# Altium footprint library SOP128P700X220-16N.PcbLib: 1 footprints
Each footprint in its own frame and in the unit in brackets; x right, y up, seen from the top. Pads: shape width x height; smd on the part's side, far side on the other; paste and mask are expansions set on the pad; w line width, h text height; cw(c..) or ccw(c..) is an arc to the next point about the centre after c.
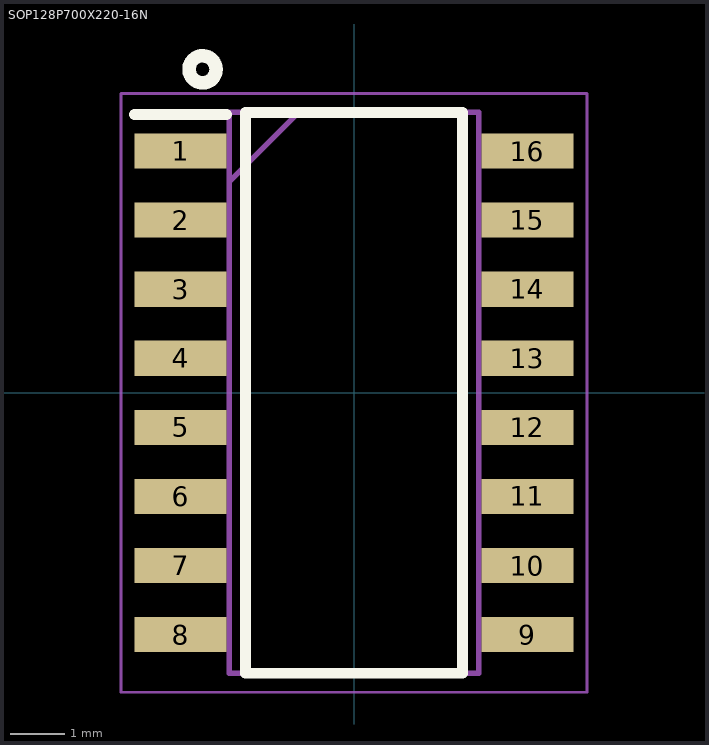
[diagram p0: the footprint, top view; thin cyan lines are the x and y axes]

## SOP128P700X220-16N [mm]
pads (16):
  rect 1.7x0.65 smd: 1(-3.2,4.462) 2(-3.2,3.188) 3(-3.2,1.912) 4(-3.2,0.638) 5(-3.2,-0.638) 6(-3.2,-1.912) 7(-3.2,-3.188) 8(-3.2,-4.462) 9(3.2,-4.462) 10(3.2,-3.188) 11(3.2,-1.912) 12(3.2,-0.638) 13(3.2,0.638) 14(3.2,1.912) 15(3.2,3.188) 16(3.2,4.462)
Top Overlay:
  circle w0.25: c-2.794,5.969 r0.25
  lines w0.2: -4.05,5.138 -2.35,5.138 ; -2,-5.175 2,-5.175 2,5.175 -2,5.175 -2,-5.175
Mechanical 13:
  lines w0.1: -2.3,3.9 -1.025,5.175 ; -2.3,-5.175 2.3,-5.175 2.3,5.175 -2.3,5.175 -2.3,-5.175
Mechanical 15:
  lines w0.05: -4.3,-5.525 4.3,-5.525 4.3,5.525 -4.3,5.525 -4.3,-5.525
3D body "TLP293-4_GB.stp": height 2.2, standoff 0, extent -3.5,-5.175 3.5,5.175